# EAGLE library part SAMTEC-SFM-115-01-X-D-A (library SAMTEC-SFM-115-01-X-D-A)
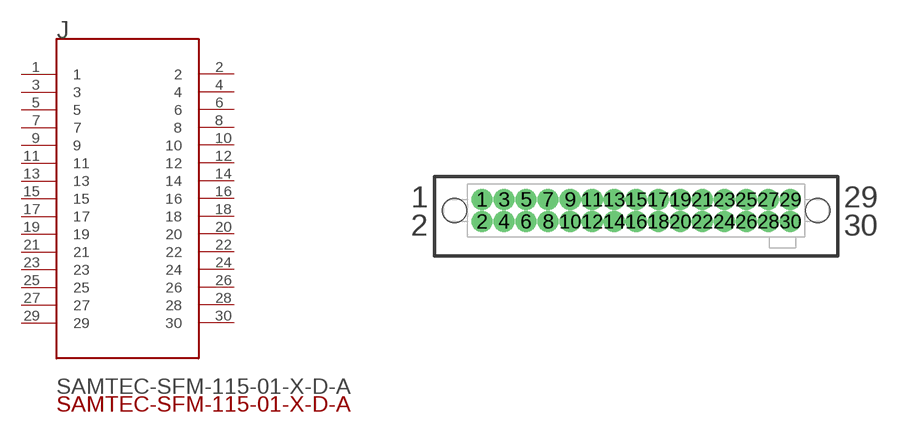
[diagram p0: symbol with the pads of SAMTEC-SFM-115-01-X-D-A; footprint SAMTEC-SFM-115-01-X-D-A]

Designator prefix J

## SAMTEC-SFM-115-01-X-D-AJ  [SAMTEC-SFM-115-01-X-D-A]
1  1  pas
2  2  pas
3  3  pas
4  4  pas
5  5  pas
6  6  pas
7  7  pas
8  8  pas
9  9  pas
10  10  pas
11  11  pas
12  12  pas
13  13  pas
14  14  pas
15  15  pas
16  16  pas
17  17  pas
18  18  pas
19  19  pas
20  20  pas
21  21  pas
22  22  pas
23  23  pas
24  24  pas
25  25  pas
26  26  pas
27  27  pas
28  28  pas
29  29  pas
30  30  pas

## Footprint SAMTEC-SFM-115-01-X-D-A (pad centres in mm)
translated Allegro footprint
drill 0.71 pad 1.143: 1 -8.89,0.635; 2 -8.89,-0.635; 3 -7.62,0.635; 4 -7.62,-0.635; 5 -6.35,0.635; 6 -6.35,-0.635; 7 -5.08,0.635; 8 -5.08,-0.635; 9 -3.81,0.635; 10 -3.81,-0.635; 11 -2.54,0.635; 12 -2.54,-0.635; 13 -1.27,0.635; 14 -1.27,-0.635; 15 0,0.635; 16 0,-0.635; 17 1.27,0.635; 18 1.27,-0.635; 19 2.54,0.635; 20 2.54,-0.635; 21 3.81,0.635; 22 3.81,-0.635; 23 5.08,0.635; 24 5.08,-0.635; 25 6.35,0.635; 26 6.35,-0.635; 27 7.62,0.635; 28 7.62,-0.635; 29 8.89,0.635; 30 8.89,-0.635
hole 1.4 at 10.478,0
hole 1.4 at -10.478,0